# Altium schematic symbol library Speakers_Buzzers.SchLib: 1 symbol
Pins are listed as number, name and electrical type; pins without a type are passive.

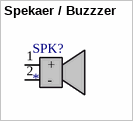
[diagram p0: symbol Spekaer / Buzzzer]

## Spekaer / Buzzzer
designator SPK?
Spekaer / Buzzzer; Value: *; Price: *; Catalog number: *
footprint PB-09N23P-03Q (Audio Indicators & Alerts CONSTANT, 2300HZ 1.2-2.5VDC, 9X5.5MM)
pins: 1 +, 2 -